# Altium schematic symbol library SCH - LOGIC - SN65LBC172A16DW.SCHLIB: 1 symbol
Pins are listed as number, name and electrical type; pins without a type are passive.

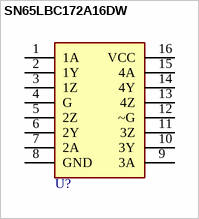
[diagram p0: symbol SN65LBC172A16DW]

## SN65LBC172A16DW
designator U?  (value not drawn)
Quadruple RS-485 Differential Line Drivers; Manufacturer: Texas Instruments; Created from: MGremer; Manufacturer Part Number: SN65LBC172A16DW; PartID: 3; Created On: 26.01.2021 13:12:08; ComponentLink1Description: Datasheet; ComponentLink1URL: https://www.ti.com/general/docs/suppproductinfo.tsp?distId=26&gotoUrl=http%3A%2F%2Fwww.ti.com%2Flit%2Fgpn%2Fsn65lbc172a; Component Type: Differential Line Driver; Device Package: SOIC; Last Updated: 26.01.2021 13:12:08; Mounting Type: SMD; Operating Temperature: -40 - 85 °C; Series: SN65LBC172A; Supplier 1: Mouser; Supplier Part Number 1: 595-SN65LBC172A16DW; Type: Diff Line Driver RS-485; Live Cycle Status: 1; Stock number: not stored
footprint SOIC127P1030X265-16N
pins: 1 1A, 2 1Y, 3 1Z, 4 G, 5 2Z, 6 2Y, 7 2A, 8 GND, 9 3A, 10 3Y, 11 3Z, 12 ~G, 13 4Z, 14 4Y, 15 4A, 16 VCC